# Altium schematic symbol library DF13A-6P-1.25H(51).SchLib: 1 symbol
Pins are listed as number, name and electrical type; pins without a type are passive.

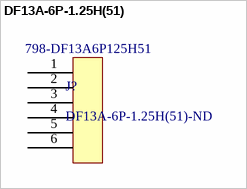
[diagram p0: symbol DF13A-6P-1.25H(51)]

## DF13A-6P-1.25H(51)
designator J?, comment DF13A-6P-1.25H(51)-ND  Supplier Part Number 1: 798-DF13A6P125H51
DF13 6 POS 1.25mm PITCH Right-angled; ComponentLink1Description: Datasheet; ComponentLink1URL: https://www.hirose.com/product/document?clcode=CL0536-0109-0-76&productname=DF13-10P-1.25DSA(76)&series=DF13&documenttype=Catalog&lang=en&documentid=D31687_en; Supplier 1: Mouser
footprint DF13A-6P-1.25H(51)-ND
pins: 1, 2, 3, 4, 5, 6